# EAGLE library part MOLEX_6 (library Simplex-Connectors)
Molex 6 pin connectors 1.25mm PicoBlade
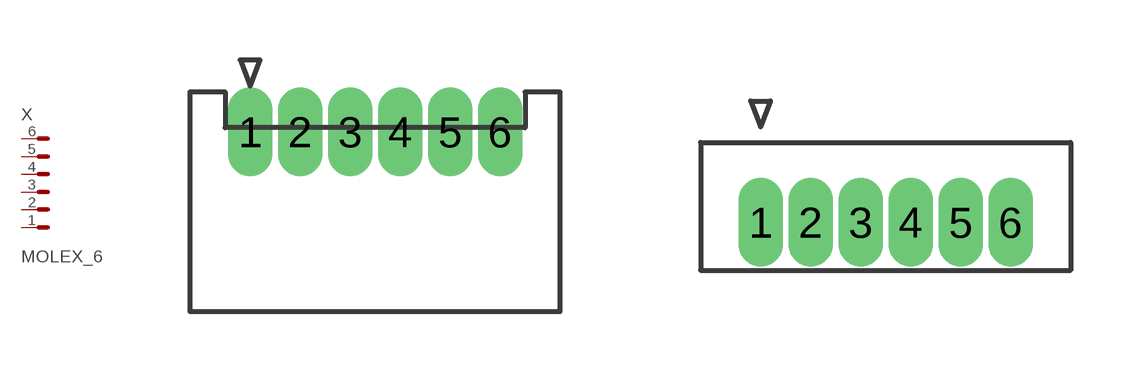
[diagram p1: symbol with the pads of 0530480610; footprints 0530480610, 0530470610]

Designator prefix X

## MOLEX_6HORIZONTAL  [0530480610]
1  6  pas
2  5  pas
3  4  pas
4  3  pas
5  2  pas
6  1  pas

## MOLEX_6VERTICAL  [0530470610]
1  1  pas
2  2  pas
3  3  pas
4  4  pas
5  5  pas
6  6  pas

## Footprint 0530480610 (pad centres in mm)
MOLEX 0530480610
drill 0.6 pad 0.9 long: 1 0,0; 2 1.25,0; 3 2.5,0; 4 3.75,0; 5 5,0; 6 6.25,0

## Footprint 0530470610 (pad centres in mm)
Molex 0530470610
drill 0.6 pad 0.813 long: 1 0,0; 2 1.25,0; 3 2.5,0; 4 3.75,0; 5 5,0; 6 6.25,0